# EAGLE library part DS_CON_N10236-52B3PC (library Module_AIO)
D-Sub Micro-D Connectors 36 CON M2.5 PANEL/GROUND
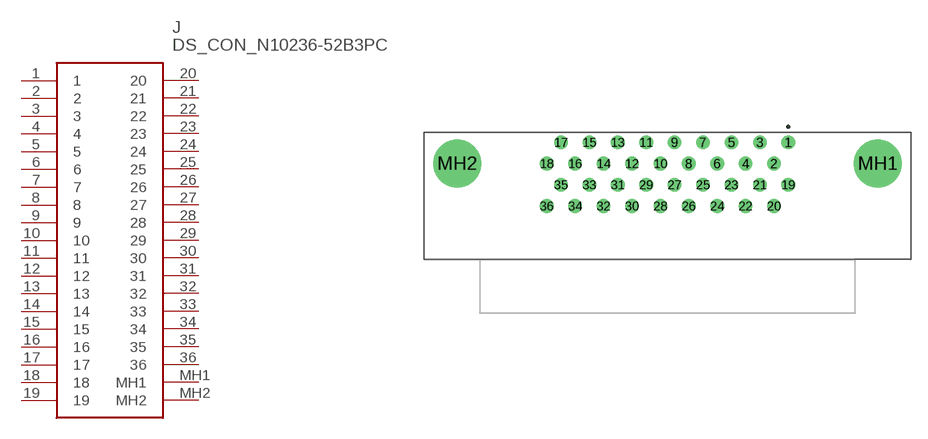
[diagram p5: symbol with the pads of DS_CON_MDB36; footprint DS_CON_MDB36]

Designator prefix J

## DS_CON_N10236-52B3PC  [DS_CON_MDB36]
1  1
2  2
3  3
4  4
5  5
6  6
7  7
8  8
9  9
10  10
11  11
12  12
13  13
14  14
15  15
16  16
17  17
18  18
19  19
20  20
21  21
22  22
23  23
24  24
25  25
26  26
27  27
28  28
29  29
30  30
31  31
32  32
33  33
34  34
35  35
36  36
MH1  MH1
MH2  MH2

## Footprint DS_CON_MDB36 (pad centres in mm)
drill 0.71 pad 1.217: 1 10.16,8.89; 2 8.89,6.99; 3 7.62,8.89; 4 6.35,6.99; 5 5.08,8.89; 6 3.81,6.99; 7 2.54,8.89; 8 1.27,6.99; 9 0,8.89; 10 -1.27,6.99; 11 -2.54,8.89; 12 -3.81,6.99; 13 -5.08,8.89; 14 -6.35,6.99; 15 -7.62,8.89; 16 -8.89,6.99; 17 -10.16,8.89; 18 -11.43,6.99; 19 10.16,5.09; 20 8.89,3.19; 21 7.62,5.09; 22 6.35,3.19; 23 5.08,5.09; 24 3.81,3.19; 25 2.54,5.09; 26 1.27,3.19; 27 0,5.09; 28 -1.27,3.19; 29 -2.54,5.09; 30 -3.81,3.19; 31 -5.08,5.09; 32 -6.35,3.19; 33 -7.62,5.09; 34 -8.89,3.19; 35 -10.16,5.09; 36 -11.43,3.19
drill 2.85 pad 4.275: MH1 18.17,6.99; MH2 -19.44,6.99